# EAGLE library part DEV-16771 (library teensy_4_1)
Teensy 4.1 i.MX ARM® Cortex®-M7 MPU Embedded Evaluation Board Check prices <https://pricing.snapeda.com/search/part/DEV-16771/?ref=eda>
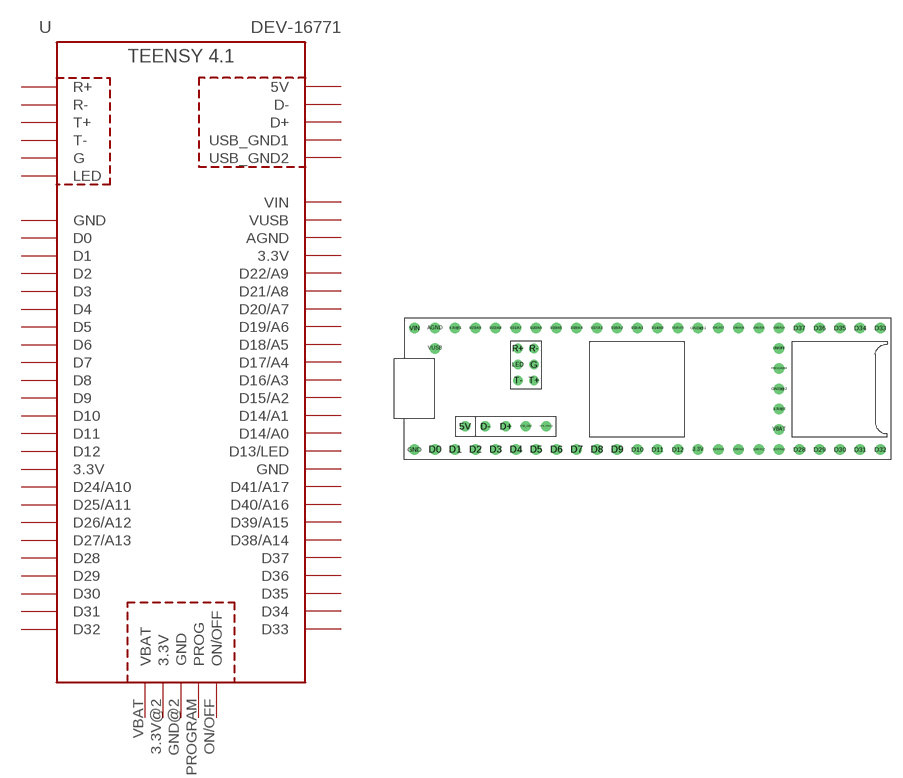
[diagram p0: symbol with the pads of DEV-16771; footprint DEV-16771]

Designator prefix -

## DEV-16771 (Availability: Warning; Description: RT1062 Teensy 4.1 i.MX ARM® Cortex®-M7 MPU Embedded Evaluation Board; MF: SparkFun Electronics; MP: DEV-16771; Package: None; Price: None; Purchase-URL: https://pricing.snapeda.com/search/part/DEV-16771/?ref=eda)  [DEV-16771]
3.3V  3.3V  pwr
3.3V@1  3.3V  pwr
3.3V@2  3.3V  pwr
5V  5V  pwr
AGND  AGND  pwr
D0  D0
D1  D1
D2  D2
D3  D3
D4  D4
D5  D5
D6  D6
D7  D7
D8  D8
D9  D9
D10  D10
D11  D11
D12  D12
D13/LED  D13/LED
D14/A0  D14/A0
D15/A1  D14/A1
D16/A2  D15/A2
D17/A3  D16/A3
D18/A4  D17/A4
D19/A5  D18/A5
D20/A6  D19/A6
D21/A7  D20/A7
D22/A8  D21/A8
D23/A9  D22/A9
D24/A10  D24/A10
D25/A11  D25/A11
D26/A12  D26/A12
D27/A13  D27/A13
D28  D28
D29  D29
D30  D30
D31  D31
D32  D32
D33  D33
D34  D34
D35  D35
D36  D36
D37  D37
D38/A14  D38/A14
D39/A15  D39/A15
D40/A16  D40/A16
D41/A17  D41/A17
D+  D+
D-  D-
G  G  pwr
GND  GND  pwr
GND@1  GND  pwr
GND@2  GND  pwr
LED  LED  in
ON/OFF  ON/OFF
PROGRAM  PROG
R+  R+
R-  R-
T+  T+
T-  T-
USB_GND  USB_GND1  pwr
USB_GND@2  USB_GND2  pwr
VBAT  VBAT  pwr
VIN  VIN  pwr
VUSB  VUSB  pwr

## Footprint DEV-16771 (pad centres in mm)
drill 0.8: 3.3V 6.35,-7.62; 3.3V@1 -24.13,7.62; 3.3V@2 16.51,-2.54; AGND -26.67,7.62; D0 -26.67,-7.62; D1 -24.13,-7.62; D2 -21.59,-7.62; D3 -19.05,-7.62; D4 -16.51,-7.62; D5 -13.97,-7.62; D6 -11.43,-7.62; D7 -8.89,-7.62; D8 -6.35,-7.62; D9 -3.81,-7.62; D10 -1.27,-7.62; D11 1.27,-7.62; D12 3.81,-7.62; D13/LED 3.81,7.62; D14/A0 1.27,7.62; D15/A1 -1.27,7.62; D16/A2 -3.81,7.62; D17/A3 -6.35,7.62; D18/A4 -8.89,7.62; D19/A5 -11.43,7.62; D20/A6 -13.97,7.62; D21/A7 -16.51,7.62; D22/A8 -19.05,7.62; D23/A9 -21.59,7.62; D24/A10 8.89,-7.62; D25/A11 11.43,-7.62; D26/A12 13.97,-7.62; D27/A13 16.51,-7.62; D28 19.05,-7.62; D29 21.59,-7.62; D30 24.13,-7.62; D31 26.67,-7.62; D32 29.21,-7.62; D33 29.21,7.62; D34 26.67,7.62; D35 24.13,7.62; D36 21.59,7.62; D37 19.05,7.62; D38/A14 16.51,7.62; D39/A15 13.97,7.62; D40/A16 11.43,7.62; D41/A17 8.89,7.62; GND -29.21,-7.62; GND@1 6.35,7.62; GND@2 16.51,0; ON/OFF 16.51,5.08; PROGRAM 16.51,2.54; VBAT 16.51,-5.08; VIN -29.21,7.62; VUSB -26.67,5.08
drill 0.75: 5V -22.86,-4.7; D+ -17.78,-4.7; D- -20.32,-4.7; USB_GND -15.24,-4.7; USB_GND@2 -12.7,-4.7
drill 0.7: G -14.24,3.04; LED -16.24,3.04; R+ -16.24,5.04; R- -14.24,5.04; T+ -14.24,1.04; T- -16.24,1.04